# EAGLE library part BQ24210DQCT (library Battery Chargers)
Charger IC Lithium-Ion 10-WSON (3x2) Manufacturer's datasheet <https://www.ti.com/lit/ds/symlink/bq24210.pdf?HQS=TI-null-null-digikeymode-df-pf-null-wwe&ts=1594283396943>
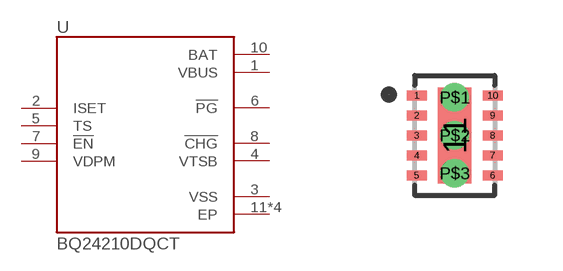
[diagram p5: symbol with the pads of BQ24210DQCT; footprint BQ24210DQCT]

Designator prefix U

## BQ24210DQCT (CREATED_BY: PCBLayout.com; DIGIKEY_PART_NUMBER: 296-28738-1-ND; MANUFACTURER: Texas Instruments; MPN: BQ24210DQCT; PACKAGE: 10-WSON)  [BQ24210DQCT]
1  VBUS  pwr
2  ISET  in
3  VSS  pwr
4  VTSB  out
5  TS  in
6  !PG  out
7  !EN  in
8  !CHG  out
9  VDPM  in
10  BAT  pwr
11  EP  pwr
P$1  EP  pwr
P$2  EP  pwr
P$3  EP  pwr

## Footprint BQ24210DQCT (pad centres in mm)
smd 0.5 x 0.25: 1 -0.95,1; 2 -0.95,0.5; 3 -0.95,0; 4 -0.95,-0.5; 5 -0.95,-1; 6 0.95,-1; 7 0.95,-0.5; 8 0.95,0; 9 0.95,0.5; 10 0.95,1
smd 0.84 x 2.4: 11 0,0
drill 0.2 pad 0.5: P$1 0,0.95; P$2 0,0; P$3 0,-0.95